# Altium schematic symbol library Schlib1.SchLib: 3 symbols
Pins are listed as number, name and electrical type; pins without a type are passive.

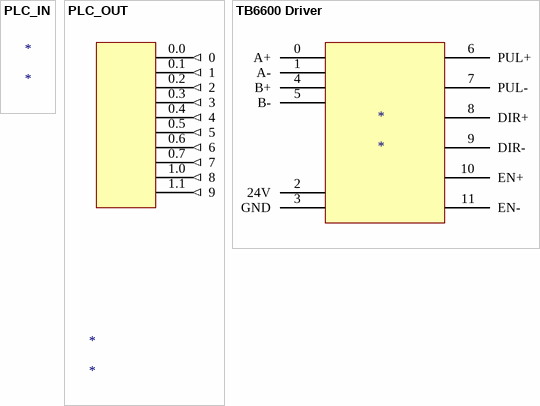
[diagram p0: symbols PLC_IN to TB6600 Driver]

## PLC_IN
designator *

## PLC_OUT
designator *
pins: 0.0 0 (out), 0.1 1 (out), 0.2 2 (out), 0.3 3 (out), 0.4 4 (out), 0.5 5 (out), 0.6 6 (out), 0.7 7 (out), 1.0 8 (out), 1.1 9 (out)

## TB6600 Driver
designator *
pins: 0 A+, 1 A-, 2 24V, 3 GND, 4 B+, 5 B-, 6 PUL+, 7 PUL-, 8 DIR+, 9 DIR-, 10 EN+, 11 EN-